# Altium schematic symbol library ACPL-227-50BE.SchLib: 1 symbol
Pins are listed as number, name and electrical type; pins without a type are passive.

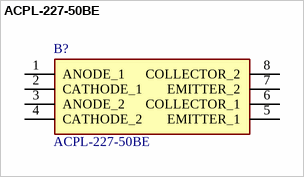
[diagram p0: symbol ACPL-227-50BE]

## ACPL-227-50BE
designator B?
ACPL-227-50BE Broadcom, Optocoupler DC Input Phototransistor Output, 8-Pin SOIC, Surface Mount; Manufacturer_Name: Avago Technologies; Geometry.Height: 2.2mm; Mouser Part Number: 630-ACPL-227-50BE; Mouser Price/Stock: https://www.mouser.co.uk/ProductDetail/Broadcom-Avago/ACPL-227-50BE?qs=zR1%252BXmOs1xbjxbgospYJ%2FQ%3D%3D; Manufacturer_Part_Number: ACPL-227-50BE; Datasheet Link: https://docs.broadcom.com/docs/AV02-0752EN
footprint SOIC127P700X220-8N
pins: 1 ANODE_1, 2 CATHODE_1, 3 ANODE_2, 4 CATHODE_2, 5 EMITTER_1, 6 COLLECTOR_1, 7 EMITTER_2, 8 COLLECTOR_2